# Altium footprint library KRM55WR72A226MH01L.PcbLib: 3 footprints
Each footprint in its own frame and in the unit in brackets; x right, y up, seen from the top. Pads: shape width x height; smd on the part's side, far side on the other; paste and mask are expansions set on the pad; w line width, h text height; cw(c..) or ccw(c..) is an arc to the next point about the centre after c.
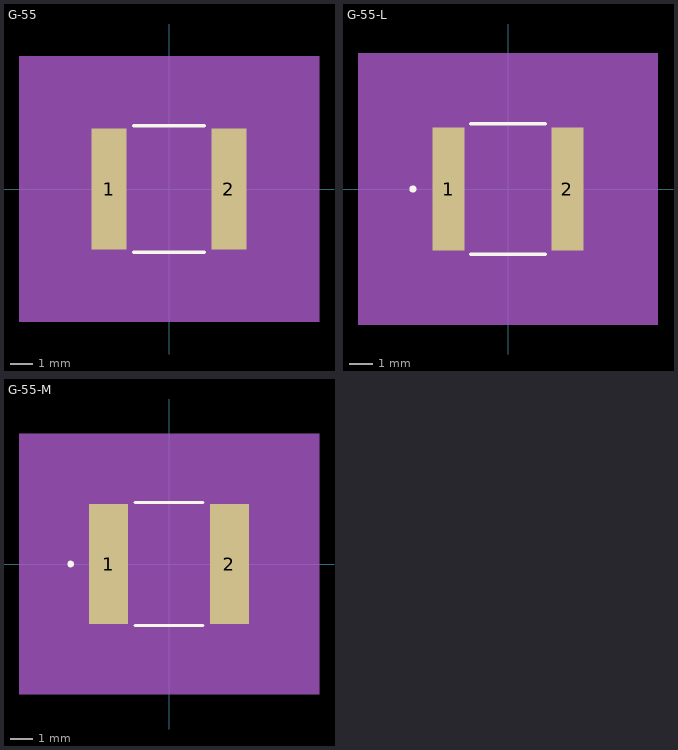
[diagram p0: the footprints below, top view; thin cyan lines are the x and y axes]

## G-55 [mil]
pads (2):
  rect 61x209 smd paste+0 mask+0: 1(-103.5,0) 2(103.5,0)
Top Overlay:
  lines w6: -60.89,-109.5 60.89,-109.5 ; -60.89,109.5 60.89,109.5
Mechanical 5:
  region: 259,-229.5 -259,-229.5 -259,229.5 259,229.5
Mechanical 7:
  lines w1: -120,0 -120,219.5 ; 0,-104.5 235,-104.5 ; 0,104.5 235,104.5 ; 23,-204.5 73,-204.5 ; 73,-219.5 73,0 ; 120,-219.5 120,0 120,219.5 ; 170,-204.5 120,-204.5 ; -120,204.5 -110,199.5 -110,209.5 -120,204.5 ; -120,204.5 120,204.5 ; 73,-204.5 63,-209.5 63,-199.5 73,-204.5 ; 120,-204.5 130,-209.5 130,-199.5 120,-204.5 ; 120,204.5 110,199.5 110,209.5 120,204.5 ; 220,-104.5 225,-94.5 215,-94.5 220,-104.5 ; 220,-104.5 220,104.5 ; 220,104.5 225,94.5 215,94.5 220,104.5
  text "0.047in/1.194mm" at 2.75,-249.5 h25
  text "0.24in/6.096mm" at -87.5,224.5 h25
  text "0.209in/5.309mm" at 240,-12.5 h25
  text "Alternate 2 Padstyle: OX90Y60D30P" at -412.5,-574.5 h50
  text "Alternate 1 Padstyle: OX60Y90D30P" at -412.5,-474.5 h50
  text "Default Padstyle: RX61Y209D0T" at -362.5,-374.5 h50
Mechanical 13:
  lines w1: -120,-104.5 -120,104.5 ; -120,-104.5 120,-104.5 ; -120,-104.5 -73,-104.5 -73,104.5 -120,104.5 ; -120,-104.5 -120,104.5 ; -120,104.5 120,104.5 ; 120,-104.5 120,104.5 ; 120,-104.5 120,104.5 ; 120,-104.5 73,-104.5 73,104.5 120,104.5
Mechanical 15:
  region: 144,-114.5 -144,-114.5 -144,114.5 144,114.5
  lines w6: -144,-114.5 144,-114.5 144,114.5 -144,114.5 -144,-114.5
3D body: height 263.78, standoff 0, extent -120,-105 120,105
3D body: height 10, standoff 0, extent 0,0 10,10

## G-55-L [mil]
pads (2):
  rect 53x205 smd paste+0 mask+0: 1(-99.5,0) 2(99.5,0)
Top Overlay:
  circle w6: c-159,0 r3
  lines w6: -61.93,-109.5 61.93,-109.5 ; -61.93,109.5 61.93,109.5
Mechanical 5:
  region: 251,-227.5 -251,-227.5 -251,227.5 251,227.5
Mechanical 7:
  lines w1: -120,0 -120,219.5 ; 0,-104.5 235,-104.5 ; 0,104.5 235,104.5 ; 23,-204.5 73,-204.5 ; 73,-219.5 73,0 ; 120,-219.5 120,0 120,219.5 ; 170,-204.5 120,-204.5 ; -120,204.5 120,204.5 ; -120,204.5 -110,209.5 -110,199.5 -120,204.5 ; 73,-204.5 63,-199.5 63,-209.5 73,-204.5 ; 120,-204.5 130,-199.5 130,-209.5 120,-204.5 ; 120,204.5 110,209.5 110,199.5 120,204.5 ; 220,-104.5 220,104.5 ; 220,-104.5 215,-94.5 225,-94.5 220,-104.5 ; 220,104.5 215,94.5 225,94.5 220,104.5
  text "Default Padstyle: RX53Y205D0T" at -362.5,-372.5 h50
  text "Alternate 1 Padstyle: OX60Y90D30P" at -412.5,-472.5 h50
  text "Alternate 2 Padstyle: OX90Y60D30P" at -412.5,-572.5 h50
  text "0.209in/5.309mm" at 240,-12.5 h25
  text "0.24in/6.096mm" at -87.5,224.5 h25
  text "0.047in/1.194mm" at 2.75,-249.5 h25
Mechanical 13:
  circle w0: c-94.5,0 r3
  lines w1: -120,-104.5 -120,104.5 ; -120,-104.5 -73,-104.5 -73,104.5 -120,104.5 ; -120,-104.5 120,-104.5 ; -120,-104.5 -120,104.5 ; -120,104.5 120,104.5 ; 120,-104.5 73,-104.5 73,104.5 120,104.5 ; 120,-104.5 120,104.5 ; 120,-104.5 120,104.5
Mechanical 15:
  region: 130,-106.5 -130,-106.5 -130,106.5 130,106.5
  lines w6: -130,-106.5 -130,106.5 130,106.5 130,-106.5 -130,-106.5
3D body: height 10, standoff 0, extent 0,0 10,10

## G-55-M [mil]
pads (2):
  rect 69x213 smd paste+0 mask+0: 1(-107.5,0) 2(107.5,0)
Top Overlay:
  circle w6: c-175,0 r3
  lines w6: -60.25,-109.5 60.25,-109.5 ; -60.25,109.5 60.25,109.5
Mechanical 5:
  region: 267,-231.5 -267,-231.5 -267,231.5 267,231.5
Mechanical 7:
  lines w1: -120,0 -120,219.5 ; 0,-104.5 235,-104.5 ; 0,104.5 235,104.5 ; 23,-204.5 73,-204.5 ; 73,-219.5 73,0 ; 120,-219.5 120,0 120,219.5 ; 170,-204.5 120,-204.5 ; -120,204.5 120,204.5 ; -120,204.5 -110,209.5 -110,199.5 -120,204.5 ; 73,-204.5 63,-199.5 63,-209.5 73,-204.5 ; 120,-204.5 130,-199.5 130,-209.5 120,-204.5 ; 120,204.5 110,209.5 110,199.5 120,204.5 ; 220,-104.5 220,104.5 ; 220,-104.5 215,-94.5 225,-94.5 220,-104.5 ; 220,104.5 215,94.5 225,94.5 220,104.5
  text "Default Padstyle: RX69Y213D0T" at -362.5,-376.5 h50
  text "Alternate 1 Padstyle: OX60Y90D30P" at -412.5,-476.5 h50
  text "Alternate 2 Padstyle: OX90Y60D30P" at -412.5,-576.5 h50
  text "0.209in/5.309mm" at 240,-12.5 h25
  text "0.24in/6.096mm" at -87.5,224.5 h25
  text "0.047in/1.194mm" at 2.75,-249.5 h25
Mechanical 13:
  circle w0: c-102.5,0 r3
  lines w1: -120,-104.5 -120,104.5 ; -120,-104.5 -73,-104.5 -73,104.5 -120,104.5 ; -120,-104.5 120,-104.5 ; -120,-104.5 -120,104.5 ; -120,104.5 120,104.5 ; 120,-104.5 73,-104.5 73,104.5 120,104.5 ; 120,-104.5 120,104.5 ; 120,-104.5 120,104.5
Mechanical 15:
  region: 162,-126.5 -162,-126.5 -162,126.5 162,126.5
  lines w6: -162,-126.5 -162,126.5 162,126.5 162,-126.5 -162,-126.5
3D body: height 10, standoff 0, extent 0,0 10,10